# Altium schematic symbol library MCP6561T-E_OT.SchLib: 1 symbol
Pins are listed as number, name and electrical type; pins without a type are passive.

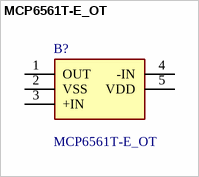
[diagram p0: symbol MCP6561T-E_OT]

## MCP6561T-E_OT
designator B?
Single 1.8V Push/Pull Comparator, E temp; Manufacturer_Name: Microchip; Manufacturer_Part_Number: MCP6561T-E/OT; Geometry.Height: 1.45mm; Avnet Part Number: *; Avnet Price/Stock: *; Datasheet Link: https://datasheet.datasheetarchive.com/originals/distributors/Datasheets-DGA6/571611.pdf
footprint SOT95P270X145-5N
pins: 1 OUT, 2 VSS, 3 +IN, 4 -IN, 5 VDD